# EAGLE library part 804-114/000-051 (library con-wago_804)
Serie 804, Stand: 01.01.2012. Die jeweils aktuellen Daten zu diesem Artikel finden Sie in unserem Produktkatalog, den Sie unter www.wago.com einsehen können. As of: 01/01/2012. Please find the newest data for this article in our product catalogue, which can be viewed under www.wago.com.
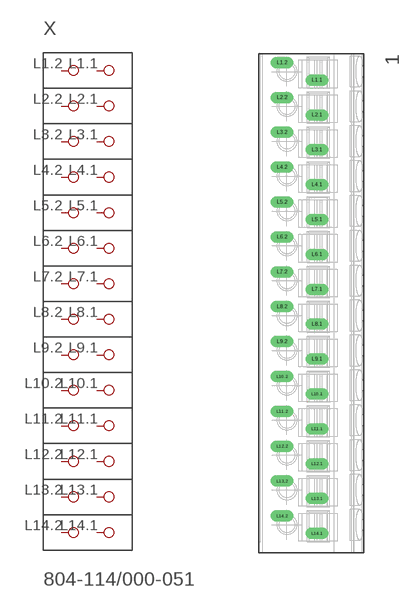
[diagram p131: symbol with the pads of P-804-114; footprint P-804-114]

Designator prefix X

## 804-114/000-051  [P-804-114]
L1.1  P1.1
L1.2  P1.2
L2.1  P2.1
L2.2  P2.2
L3.1  P3.1
L3.2  P3.2
L4.1  P4.1
L4.2  P4.2
L5.1  P5.1
L5.2  P5.2
L6.1  P6.1
L6.2  P6.2
L7.1  P7.1
L7.2  P7.2
L8.1  P8.1
L8.2  P8.2
L9.1  P9.1
L9.2  P9.2
L10.1  P10.1
L10.2  P10.2
L11.1  P11.1
L11.2  P11.2
L12.1  P12.1
L12.2  P12.2
L13.1  P13.1
L13.2  P13.2
L14.1  P14.1
L14.2  P14.2

## Footprint P-804-114 (pad centres in mm)
drill 1.1 long: L1.1 0.8,32; L1.2 -4.2,34.5; L2.1 0.8,27; L2.2 -4.2,29.5; L3.1 0.8,22; L3.2 -4.2,24.5; L4.1 0.8,17; L4.2 -4.2,19.5; L5.1 0.8,12; L5.2 -4.2,14.5; L6.1 0.8,7; L6.2 -4.2,9.5; L7.1 0.8,2; L7.2 -4.2,4.5; L8.1 0.8,-3; L8.2 -4.2,-0.5; L9.1 0.8,-8; L9.2 -4.2,-5.5; L10.1 0.8,-13; L10.2 -4.2,-10.5; L11.1 0.8,-18; L11.2 -4.2,-15.5; L12.1 0.8,-23; L12.2 -4.2,-20.5; L13.1 0.8,-28; L13.2 -4.2,-25.5; L14.1 0.8,-33; L14.2 -4.2,-30.5